# Altium schematic symbol library 6 Pin 100 mil Right Angle Header - Surface Mount.SchLib: 1 symbol
Pins are listed as number, name and electrical type; pins without a type are passive.

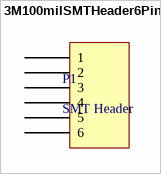
[diagram p0: symbol 3M100milSMTHeader6Pin]

## 3M100milSMTHeader6Pin
designator P1, comment SMT Header
footprint 3M100milSMTHeader6Pin
pins: 1, 2, 3, 4, 5, 6